# Altium integrated library ProtectionDevices.IntLib: 21 symbols
Pins are listed as number, name and electrical type; pins without a type are passive.

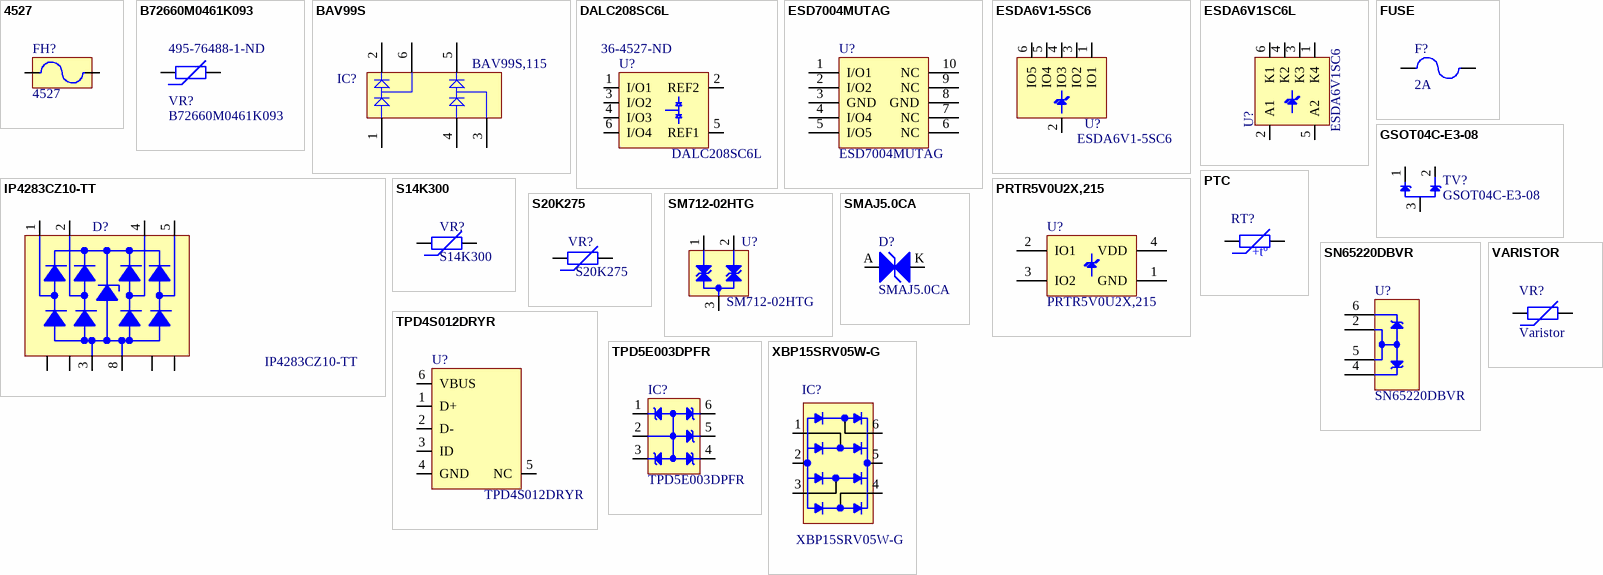
[diagram p0: symbols 4527 to XBP15SRV05W-G]

## 4527
designator FH?
FUSE HLDR CARTRIDGE 250V 5A PCB; Manufacturer: Keystone Electronics; Fuseholder Type: Holder; For Use With/Related Products: 1/4" Dia; Fuse Size: 5mm x 20mm; Number of Circuits: 1; Supplier 1: Digi-Key; Manufacturer Part Number: 4527; RoHS: RoHS Compliant; Category: Circuit Protection; Stock 1: 21989; Pricing 1: 1=0.73, 10=0.55, 50=0.44, 100=0.4217, 250=0.38504, 500=0.3667, 1000=0.30784, 2500=0.27504, 5000=0.26586 (USD); Part Status: Active; Fuse Type: Cartridge; Voltage: 250V; Current Rating: 5A; Mounting Type: PCB; Orientation: Horizontal; Termination Style: PC Pin; Contact Material: Brass; Contact Finish: Tin; ComponentLink1URL: http://www.keyelco.com/product-pdf.cfm?p=324; ComponentLink1Description: http://www.keyelco.com/product-pdf.cfm?p=324; Value: 4527; Supplier Part Number 1: 36-4527-ND
footprint 4527_KEYSTONE
pins: 1, 2

## B72660M0461K093
designator VR?  Supplier Part Number 1: 495-76488-1-ND
Var MLV 460VAC/615VDC 1000A 750V 4032 SMD Automotive Medical T/R; Manufacturer: TDK EPCOS; Max Surge Current: 1kA; Capacitance: 55pF; Tolerance: 10%; Voltage Rating (DC): 615V; Voltage Rating (AC): 460V; Current Rating: 10A; Clamping Voltage: 1.24kV; Supplier 1: Digi-Key; Manufacturer Part Number: B72660M0461K093; RoHS: Yes; Category: Varistors; Stock 1: 861; Pricing 1: 1=1,22000, 10=1,08200, 25=0,97760, 100=0,85530, 250=0,75056, 500=0,66328 (USD); Mount: Surface Mount; Case/Package: 4032; Case Code (Imperial): 4032; Min Operating Temperature: -40°C; Max Operating Temperature: 85°C; Packaging: Tape and Reel; Package Quantity: 1000; Series: CU; Termination: SMD/SMT; Resistor Type: Ceramic; Length: 10.2mm; Width: 8mm; Height: 4.5mm; ComponentLink1URL: https://media.digikey.com/pdf/Data%20Sheets/Epcos%20PDFs/B72660M0461K093.pdf?src-supplier=Digi-Key; ComponentLink1Description: https://media.digikey.com/pdf/Data%20Sheets/Epcos%20PDFs/B72660M0461K093.pdf?src-supplier=Digi-Key; ComponentLink2URL: http://www.mouser.com/ds/2/400/EPCOS_19336-1-524947.pdf?src-supplier=Mouser; ComponentLink2Description: http://www.mouser.com/ds/2/400/EPCOS_19336-1-524947.pdf?src-supplier=Mouser; ComponentLink3URL: http://components.arrow.com/part/dataview/0323_02021136?src-supplier=Arrow+Europe; ComponentLink3Description: http://components.arrow.com/part/dataview/0323_02021136?src-supplier=Arrow+Europe; ComponentLink4URL: https://www.verical.com/server-webapp/html/getDatasheet?partID=360595&src-supplier=Verical; ComponentLink4Description: https://www.verical.com/server-webapp/html/getDatasheet?partID=360595&src-supplier=Verical
footprint 4032(10080)
pins: 1, 2

## BAV99S
designator IC?, comment BAV99S,115
Supplier 1: Digi-Key; Supplier Part Number 1: 1727-4042-6-ND
footprint INF-SOT363_V (SOT23, 6-Leads, Body 2x1.25 mm, Pitch 0.65 mm)
pins: 1 A1, 2 K2, 3 C3, 4 A4, 5 K5, 6 C6

## DALC208SC6L
designator U?  Supplier Part Number 2: 36-4527-ND
TVS DIODE 5VWM SOT23-6L; Manuf1: ST Microelectronics; Populated: Yes; Value: DALC208SC6L; Supplier 1: Digi-Key; Supplier Part Number 1: 497-2525-1-ND; Manuf1Partnumber: DALC208SC6L; ROHS: Yes; PackageReference: SOT23-6; ClassName: *; HelpURL: *; LifeCycle: Checked; Code_JEDEC: *; Supplier 2: Digi-Key
footprint SOT23-6
pins: 1 I/O1, 2 REF2, 3 I/O2, 4 I/O3, 5 REF1, 6 I/O4

## ESD7004MUTAG
designator U?
TVS DIODE 5V 10V 10UDFN; Manufacturer: ON Semiconductor; Direction: Unidirectional; Number of Unidirectional Channels: 4; Min Breakdown Voltage: 5.5V; Power Line Protection: No; Leakage Current: 1uA; Peak Pulse Current: 1A; Supplier 1: Digi-Key; Manufacturer Part Number: ESD7004MUTAG; Stock 1: 77601; Pricing 1: 1=0,50000, 10=0,37700, 100=0,23510, 500=0,16084, 1000=0,12373 (USD); RoHS: Yes; Case/Package: DFN; Number of Pins: 10; Min Operating Temperature: -55°C; Max Operating Temperature: 125°C; Package Quantity: 1; Packaging: Tape and Reel; Reverse Standoff Voltage: 5V; Clamping Voltage: 10V; Polarity: Unidirectional; Number of Channels: 4; Breakdown Voltage: 5.5V; Termination: SMD/SMT; Working Voltage: 5V; Number of Lines: 4; Composition: Zener; Length: 2.5mm; Height: 0.55mm; Lead Pitch: 0.5mm; Width: 1mm; Depth: 1mm; Radiation Hardening: No; REACH SVHC: No SVHC; Lead Free: Lead Free; Halogen Free: Halogen Free; ComponentLink1URL: https://datasheet.ciiva.com/340/esd7004-d-340834.pdf?src-supplier=Digi-Key; ComponentLink1Description: https://datasheet.ciiva.com/340/esd7004-d-340834.pdf?src-supplier=Digi-Key; ComponentLink2URL: https://datasheet.ciiva.com/11195/esd7004-d-11195299.pdf?src-supplier=Avnet; ComponentLink2Description: https://datasheet.ciiva.com/11195/esd7004-d-11195299.pdf?src-supplier=Avnet; ComponentLink3URL: https://datasheet.ciiva.com/25958/esd7004-d-25958438.pdf?src-supplier=Avnet+Europe; ComponentLink3Description: https://datasheet.ciiva.com/25958/esd7004-d-25958438.pdf?src-supplier=Avnet+Europe; ComponentLink4URL: https://datasheet.ciiva.com/25606/0900766b810de33d-25606504.pdf?src-supplier=RSComponents; ComponentLink4Description: https://datasheet.ciiva.com/25606/0900766b810de33d-25606504.pdf?src-supplier=RSComponents; ComponentLink5URL: https://datasheet.ciiva.com/4507/esd7004-d-109307-4507723.pdf?src-supplier=Mouser; ComponentLink5Description: https://datasheet.ciiva.com/4507/esd7004-d-109307-4507723.pdf?src-supplier=Mouser; ComponentLink6URL: https://datasheet.ciiva.com/28654/esd7004-d-28654325.pdf?src-supplier=Element14; ComponentLink6Description: https://datasheet.ciiva.com/28654/esd7004-d-28654325.pdf?src-supplier=Element14; ComponentLink7URL: https://datasheet.ciiva.com/340/esd7004-d-340836.pdf?src-supplier=Digi-Key; ComponentLink7Description: https://datasheet.ciiva.com/340/esd7004-d-340836.pdf?src-supplier=Digi-Key; ComponentLink8URL: https://datasheet.ciiva.com/1267/esd7004-d-1267917.pdf?src-supplier=Element14; ComponentLink8Description: https://datasheet.ciiva.com/1267/esd7004-d-1267917.pdf?src-supplier=Element14; ComponentLink9URL: https://datasheet.ciiva.com/340/esd7004-d-340835.pdf?src-supplier=Digi-Key; ComponentLink9Description: https://datasheet.ciiva.com/340/esd7004-d-340835.pdf?src-supplier=Digi-Key; Value: ESD7004MUTAG; Supplier Part Number 1: ESD7004MUTAGOSCT-ND
footprint UDFN10 2.5 x 1, 0.5
pins: 1 I/O1, 2 I/O2, 3 GND, 4 I/O4, 5 I/O5, 6 NC, 7 NC, 8 GND, 9 NC, 10 NC

## ESDA6V1-5SC6
designator U?
TVS DIODE 3VWM SOT23-6; Manufacturer: STMicroelectronics; Voltage - Reverse Standoff (Typ): 3V; Voltage - Breakdown (Min): 6.1V; Power - Peak Pulse: 100W; Power Line Protection: No; Supplier 1: Digi-Key; Manufacturer Part Number: ESDA6V1-5SC6; RoHS: RoHS Compliant; Category: Circuit Protection; Stock 1: 12019; Pricing 1: 1=0.47, 10=0.378, 100=0.2571, 500=0.19282, 1000=0.14461 (USD); Packaging: Cut Tape (CT); Part Status: Active; Type: Zener; Voltage - Clamping (Max) @ Ipp: -; Current - Peak Pulse (10/1000µs): -; Applications: General Purpose; Capacitance @ Frequency: -; Operating Temperature: -40°C ~ 125°C (TA); Mounting Type: Surface Mount; Package / Case: SOT-23-6; Supplier Device Package: SOT-23-6; ComponentLink1URL: http://www.st.com/content/ccc/resource/technical/document/datasheet/group2/13/b7/cb/ef/22/fb/46/82/CD00005102/files/CD00005102.pdf/jcr:content/translations/en.CD00005102.pdf; ComponentLink1Description: http://www.st.com/content/ccc/resource/technical/document/datasheet/group2/13/b7/cb/ef/22/fb/46/82/CD00005102/files/CD00005102.pdf/jcr:content/translations/en.CD00005102.pdf; Supplier Part Number 1: 497-7747-1-ND; Value: ESDA6V1-5SC6
footprint SOT23-6
footprint SOT323-6L
pins: 1 IO1, 2 A, 3 IO2, 4 IO3, 5 IO4, 6 IO5

## ESDA6V1SC6L
designator U?, comment ESDA6V1SC6
TVS DIODE 5.25VWM SOT23-6; Manuf1: ST Microelectronics; Populated: Yes; Value: ESDA6V1SC6; Supplier 1: Digi-Key; Supplier Part Number 1: 497-6637-1-ND; ROHS: Yes; ClassName: *; HelpURL: *; Code_JEDEC: *; LifeCycle: Checked; Manuf1Partnumber: ESDA6V1SC6; PackageReference: SOT23-6
footprint SOT23-6
pins: 1 K4, 2 A1, 3 K3, 4 K2, 5 A2, 6 K1

## FUSE
designator F?, comment 2A
Generic Fuse, Littlefuse; Populated: Yes; ROHS: Yes; Value: 2A; LifeCycle: Checked
footprint FUSE1206 (1206 body for fuse)
footprint FUSE1812
footprint F1812
footprint SHK20L
pins: 1, 2

## GSOT04C-E3-08
designator TV?
TVS DIODE 4VWM 14.3VC SOT23; Manufacturer: Vishay Semiconductor Diodes Division; Voltage - Reverse Standoff (Typ): 4V (Max); Voltage - Breakdown (Min): 5V; Voltage - Clamping (Max) @ Ipp: 14.3V; Current - Peak Pulse (10/1000µs): 30A (8/20µs); Power - Peak Pulse: 429W; Power Line Protection: No; Capacitance @ Frequency: 310pF @ 1MHz; Supplier 1: Digi-Key; Manufacturer Part Number: GSOT04C-E3-08; RoHS: RoHS Compliant; Category: Circuit Protection; Stock 1: 45513; Pricing 1: 1=0.44, 10=0.33, 25=0.2976, 100=0.2055, 250=0.17304, 500=0.1406, 1000=0.10815 (USD); Packaging: Cut Tape (CT); Part Status: Active; Type: Zener; Applications: General Purpose; Operating Temperature: -55°C ~ 150°C (TJ); Mounting Type: Surface Mount; Package / Case: TO-236-3, SC-59, SOT-23-3; Supplier Device Package: SOT-23-3; ComponentLink1URL: http://www.vishay.com/docs/85824/gsot03c.pdf; ComponentLink1Description: http://www.vishay.com/docs/85824/gsot03c.pdf; Supplier Part Number 1: GSOT04C-E3-08CT-ND; Value: GSOT04C-E3-08
footprint SOT-23_N (SOT23, 3-Leads, Body 2.9x1.3mm, Pitch 0.95mm, Lead Span 2.5mm, IPC Medium Density)
pins: 1, 2, 3

## IP4283CZ10-TT
designator D?
TVS DIODE 5.5VWM 9.5VC 10TSSOP; Manuf1: NXP Semiconductors; Populated: Yes; Manuf1Partnumber: IP4283CZ10-TT; ROHS: Yes; Value: IP4283CZ10-TT; Supplier 1: Digi-Key; Supplier Part Number 1: 568-5875-1-ND
footprint TSSOP10
pins: 1, 2, 3, 4, 5, 6, 7, 8, 9, 10

## PRTR5V0U2X,215
designator U?
TVS DIODE 5.5VWM SOT143B; Manufacturer: Nexperia USA Inc.; Voltage - Reverse Standoff (Typ): 5.5V (Max); Voltage - Breakdown (Min): 6V; Power Line Protection: Yes; Capacitance @ Frequency: 1pF @ 1MHz; Supplier 1: Digi-Key; Manufacturer Part Number: PRTR5V0U2X,215; RoHS: RoHS Compliant; Category: Circuit Protection; Stock 1: 80216; Pricing 1: 1=0.52, 10=0.447, 100=0.334, 500=0.2624, 1000=0.20276 (USD); Packaging: Cut Tape (CT); Part Status: Active; Type: Steering (Rail to Rail); Voltage - Clamping (Max) @ Ipp: -; Current - Peak Pulse (10/1000µs): -; Power - Peak Pulse: -; Applications: General Purpose; Operating Temperature: -40°C ~ 85°C (TA); Mounting Type: Surface Mount; Package / Case: TO-253-4, TO-253AA; Supplier Device Package: SOT-143B; ComponentLink1URL: http://assets.nexperia.com/documents/data-sheet/PRTR5V0U2X.pdf; ComponentLink1Description: http://assets.nexperia.com/documents/data-sheet/PRTR5V0U2X.pdf; Value: PRTR5V0U2X,215; Supplier Part Number 1: 1727-3884-1-ND
footprint SOT-143_L (SOT143, 4-Leads, Body 2.9x1.3mm, Pitch 1.9mm, Lead Span 2.5mm, IPC High Density)
footprint SOT-143_M (SOT143, 4-Leads, Body 2.9x1.3mm, Pitch 1.9mm, Lead Span 2.5mm, IPC Low Density)
footprint SOT-143_N (SOT143, 4-Leads, Body 2.9x1.3mm, Pitch 1.9mm, Lead Span 2.5mm, IPC Medium Density)
pins: 1 GND, 2 IO1, 3 IO2, 4 VDD

## PTC
designator RT?
PTC Resettable fuse/Polyfuse; Populated: Yes; PackageReference: *; Value: *; ROHS: Yes
footprint F1812
footprint FUSE1206
footprint FUSE1812
footprint POLYSW200-5638-310
pins: 1, 2
text: +tº

## S14K300
designator VR?
footprint S14K300 (VARISTOR 470V 4.5KA DISC 14MM)
pins: 1, 2

## S20K275
designator VR?
VARISTOR 387V 8KA DISC 20MM; Manufacturer: EPCOS (TDK); Varistor Voltage (Typ): 430V; Varistor Voltage (Max): 473V; Number of Circuits: 1; Maximum AC Volts: 275VAC; Maximum DC Volts: 350VDC; Energy: 151J; Populated: Yes; Supplier 1: Digi-Key; Supplier Part Number 1: 495-1417-ND; Manufacturer Part Number: S20K275; RoHS: Yes; Category: Circuit Protection; Stock 1: 51195; Pricing 1: 1=0.95, 10=0.827, 100=0.6383, 500=0.4728, 1000=0.37824, 5000=0.31914, 10000=0.30732 (USD); Packaging: Bulk; Varistor Voltage (Min): 387V; Current - Surge: 8kA; Package / Case: Disc 20mm; Mounting Type: Through Hole; ComponentLink1URL: http://en.tdk.eu/inf/70/db/var_11/SIOV_Leaded_StandarD.pdf; ComponentLink1Description: http://en.tdk.eu/inf/70/db/var_11/SIOV_Leaded_StandarD.pdf; Value: S20K275; LifeCycle: Checked
footprint S20K275
footprint S20K275-H
pins: 1, 2

## SM712-02HTG
designator U?
TVS DIODE 12VWM 31VC SOT23; Manufacturer: Littelfuse Inc.; Voltage - Reverse Standoff (Typ): 12V; Voltage - Breakdown (Min): 13.3V; Voltage - Clamping (Max) @ Ipp: 31V; Current - Peak Pulse (10/1000µs): 19A (8/20µs); Power - Peak Pulse: 600W; Power Line Protection: No; Capacitance @ Frequency: 75pF @ 1MHz; Supplier 1: Digi-Key; Manufacturer Part Number: SM712-02HTG; RoHS: RoHS Compliant; Category: Circuit Protection; Stock 1: 41902; Pricing 1: 1=0.93, 10=0.816, 25=0.7228, 100=0.6294, 250=0.5478, 500=0.4662, 1000=0.37296 (USD); Packaging: Cut Tape (CT); Part Status: Active; Type: Zener; Applications: Automotive; Operating Temperature: -40°C ~ 125°C (TJ); Mounting Type: Surface Mount; Package / Case: TO-236-3, SC-59, SOT-23-3; Supplier Device Package: SOT-23-3; ComponentLink1URL: http://www.littelfuse.com/~/media/electronics/datasheets/tvs_diode_arrays/littelfuse_tvs_diode_array_sm712_datasheet.pdf.pdf; ComponentLink1Description: http://www.littelfuse.com/~/media/electronics/datasheets/tvs_diode_arrays/littelfuse_tvs_diode_array_sm712_datasheet.pdf.pdf; Supplier Part Number 1: F6450CT-ND; Value: SM712-02HTG
footprint SOT-23_L (SOT23, 3-Leads, Body 2.9x1.3mm, Pitch 0.95mm, Lead Span 2.5mm, IPC High Density)
footprint SOT-23_M (SOT23, 3-Leads, Body 2.9x1.3mm, Pitch 0.95mm, Lead Span 2.5mm, IPC Low Density)
footprint SOT-23_N (SOT23, 3-Leads, Body 2.9x1.3mm, Pitch 0.95mm, Lead Span 2.5mm, IPC Medium Density)
pins: 1, 2, 3

## SMAJ5.0CA
designator D?
TVS Diode, Bidirectional, 5VWM, 9.2VC, 400W, DO-214AC; Manuf1: Littlefuse; Populated: Yes; LatestRevisionDate: 12-December-2015; PackageReference: 0402; ROHS: Yes; Value: SMAJ5.0CA; Manuf1Partnumber: SMAJ5.0CA; Supplier Part Number 1: SMAJ5.0CALFCT-ND; LifeCycle: Checked
footprint DO-214AC (Molded Diode, 2-Leads, Body 4,29x2,59mm, IPC Medium Density)
pins: A 1, K 1

## SN65220DBVR
designator U?
TEXAS INSTRUMENTS - SN65220DBVR - ESD Protection Device, TVS, SOT-23, 6 Pins, 6 V, 385 mW, SN652 Series; Capacitance: 35pF; Working Voltage: 6V; Clamping Voltage: 7V; Leakage Current: 1uA; Element Configuration: Single; Max Surge Current: 3A; Interface: USB; Number of Circuits: 1; Number of Channels: 2; Max Power Dissipation: 60W; Polarity: Unidirectional; Power Dissipation: 385mW; Supplier 1: Digi-Key; Manufacturer 1: Texas Instruments; Manufacturer Part Number 1: SN65220DBVR; Stock 1: 154052; Pricing 1: 1=0,85000, 10=0,76100, 25=0,72240, 100=0,54180, 250=0,53664, 500=0,45924, 1000=0,37410 (USD); RoHS: Yes; Case/Package: SOT-23; Number of Pins: 6; Weight: 0.000473oz; Contact Plating: Gold; Min Operating Temperature: -40°C; Max Operating Temperature: 85°C; Package Quantity: 3000; Packaging: Tape and Reel; Operating Supply Voltage: 6V; Breakdown Voltage: 7V; Termination: SMD/SMT; Min Breakdown Voltage: 7V; Length: 2.9mm; Height: 1.15mm; Depth: 1.6mm; Width: 1.6mm; Radiation Hardening: No; Lead Free: Lead Free; REACH SVHC: No SVHC; ComponentLink1URL: https://datasheet.ciiva.com/361/sn75240-361296.pdf?src-supplier=Digi-Key; ComponentLink1Description: https://datasheet.ciiva.com/361/sn75240-361296.pdf?src-supplier=Digi-Key; ComponentLink2URL: https://datasheet.ciiva.com/22696/1831067-22696624.pdf?src-supplier=Element14; ComponentLink2Description: https://datasheet.ciiva.com/22696/1831067-22696624.pdf?src-supplier=Element14; ComponentLink3URL: https://datasheet.ciiva.com/27052/1371639-27052119.pdf?src-supplier=Jameco; ComponentLink3Description: https://datasheet.ciiva.com/27052/1371639-27052119.pdf?src-supplier=Jameco; ComponentLink4URL: https://datasheet.ciiva.com/361/sn75240-361297.pdf?src-supplier=Digi-Key; ComponentLink4Description: https://datasheet.ciiva.com/361/sn75240-361297.pdf?src-supplier=Digi-Key; ComponentLink5URL: https://datasheet.ciiva.com/26917/getdatasheetpartid-256168-26917943.pdf?src-supplier=Verical; ComponentLink5Description: https://datasheet.ciiva.com/26917/getdatasheetpartid-256168-26917943.pdf?src-supplier=Verical; ComponentLink6URL: https://datasheet.ciiva.com/7659/1847490-7659963.pdf?src-supplier=Element14; ComponentLink6Description: https://datasheet.ciiva.com/7659/1847490-7659963.pdf?src-supplier=Element14; ComponentLink7URL: https://datasheet.ciiva.com/361/sn75240-361295.pdf?src-supplier=Digi-Key; ComponentLink7Description: https://datasheet.ciiva.com/361/sn75240-361295.pdf?src-supplier=Digi-Key; Supplier Part Number 1: 296-9694-1-ND; Value: SN65220DBVR
footprint SOT23-6
pins: 2 GND, 4 B, 5 GND, 6 A

## TPD4S012DRYR
designator U?
IC 4CH ESD SOLUTION W/CLAMP 6SON; Manufacturer: Texas Instruments; Power (Watts): 60W; Number of Circuits: 4; Populated: Yes; Supplier 1: Digi-Key; Supplier Part Number 1: 296-24244-1-ND; Manufacturer Part Number: TPD4S012DRYR; RoHS: RoHS Compliant; Category: Circuit Protection; Stock 1: 40857; Pricing 1: 1=0.73, 10=0.643, 100=0.4914, 500=0.38934, 1000=0.23625 (USD); Packaging: Cut Tape (CT); Voltage - Working: -; Voltage - Clamping: -; Technology: Mixed Technology; Applications: USB; Package / Case: 6-UFDFN; Supplier Device Package: 6-SON (1.45x1); ComponentLink1URL: http://www.ti.com/lit/ds/symlink/tpd4s012.pdf; ComponentLink1Description: http://www.ti.com/lit/ds/symlink/tpd4s012.pdf; Value: TPD4S012DRYR
footprint SON6 (U_6_DRY)
pins: 1 D+, 2 D-, 3 ID, 4 GND (power), 5 NC, 6 VBUS (power)

## TPD5E003DPFR
designator IC?
TVS DIODE 5VWM 19.5VC 6X2SON; Manufacturer: Texas Instruments; Unidirectional Channels: 5; Bidirectional Channels: 4; Voltage - Reverse Standoff (Typ): 5V (Max); Voltage - Breakdown (Min): 6V; Voltage - Clamping (Max) @ Ipp: 19.5V; Current - Peak Pulse (10/1000µs): 10A (8/20µs); Power - Peak Pulse: 40W; Power Line Protection: No; Capacitance @ Frequency: 10pF @ 1MHz; Supplier 1: Digi-Key; Manufacturer Part Number: TPD5E003DPFR; RoHS: RoHS Compliant; Category: Circuit Protection; Stock 1: 4791; Pricing 1: 1=0.58, 10=0.495, 100=0.3699, 500=0.29056, 1000=0.224 (USD); Packaging: Cut Tape (CT); Part Status: Active; Type: Zener; Applications: General Purpose; Operating Temperature: -40°C ~ 125°C (TA); Mounting Type: Surface Mount; Package / Case: 6-XFDFN; Supplier Device Package: 6-X2SON (1x1); ComponentLink1URL: http://www.ti.com/lit/ds/symlink/tpd5e003.pdf; ComponentLink1Description: http://www.ti.com/lit/ds/symlink/tpd5e003.pdf; Value: TPD5E003DPFR; Supplier Part Number 1: 296-43577-1-ND
footprint SON35P100X40-6N (SON, 6-Leads, Body 1,00x1,00mm, Pitch 0,35mm, IPC Medium Density)
pins: 1, 2, 3, 4, 5, 6

## VARISTOR
designator VR?, comment Varistor
Generic Varistor; Populated: Yes; ROHS: Yes; Value: Varistor; LifeCycle: Checked
footprint VAR1206
pins: 1, 2

## XBP15SRV05W-G
designator IC?
TVS DIODE 5V 10V SOT26P; Supplier 1: Digi-Key
footprint SOT23-6
pins: 1, 2, 3, 4, 5, 6